# EAGLE library part MPU-9150 (library GibbotV5)
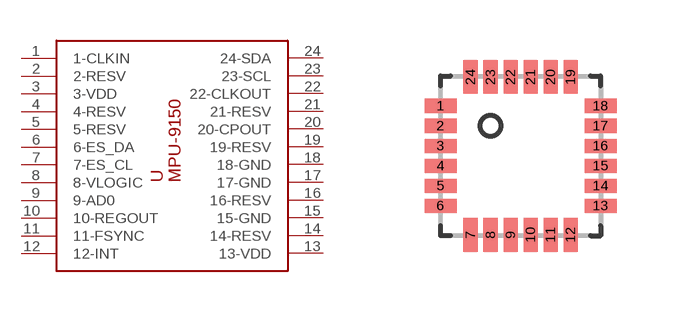
[diagram p6: symbol with the pads of LGA24_4X4; footprint LGA24_4X4]

Designator prefix -

## MPU-9150  [LGA24_4X4]
1  1-CLKIN
2  2-RESV
3  3-VDD
4  4-RESV
5  5-RESV
6  6-ES_DA
7  7-ES_CL
8  8-VLOGIC
9  9-AD0
10  10-REGOUT
11  11-FSYNC
12  12-INT
13  13-VDD
14  14-RESV
15  15-GND
16  16-RESV
17  17-GND
18  18-GND
19  19-RESV
20  20-CPOUT
21  21-RESV
22  22-CLKOUT
23  23-SCL
24  24-SDA

## Footprint LGA24_4X4 (pad centres in mm)
smd 0.8 x 0.35: 1 -2,1.25; 2 -2,0.75; 3 -2,0.25; 4 -2,-0.25; 5 -2,-0.75; 6 -2,-1.25; 13 2,-1.25; 14 2,-0.75; 15 2,-0.25; 16 2,0.25; 17 2,0.75; 18 2,1.25
smd 0.35 x 0.85: 7 -1.25,-1.975; 8 -0.75,-1.975; 9 -0.25,-1.975; 10 0.25,-1.975; 11 0.75,-1.975; 12 1.25,-1.975; 19 1.25,1.975; 20 0.75,1.975; 21 0.25,1.975; 22 -0.25,1.975; 23 -0.75,1.975; 24 -1.25,1.975